# EAGLE library part ATTINY84 (library 000_CustomPartsMaster)
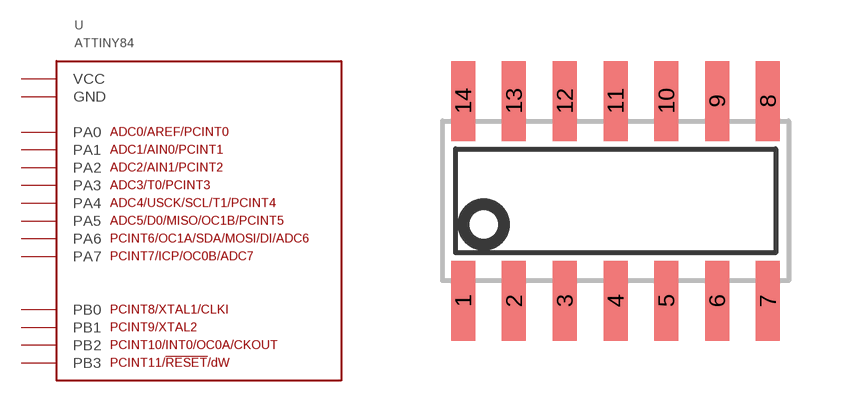
[diagram p19: symbol with the pads of SOIC14; footprint SOIC14]

Designator prefix -

## ATTINY84  [SOIC14]
1  VCC
2  PB0
3  PB1
4  PB3
5  PB2
6  PA7
7  PA6
8  PA5
9  PA4
10  PA3
11  PA2
12  PA1
13  PA0
14  GND

## Footprint SOIC14 (pad centres in mm)
smd 0.6 x 2: 1 -3.81,-2.5; 2 -2.54,-2.5; 3 -1.27,-2.5; 4 0,-2.5; 5 1.27,-2.5; 6 2.54,-2.5; 7 3.81,-2.5; 8 3.81,2.5; 9 2.54,2.5; 10 1.27,2.5; 11 0,2.5; 12 -1.27,2.5; 13 -2.54,2.5; 14 -3.81,2.5